# Altium schematic symbol library 1-1734592-0.SchLib: 1 symbol
Pins are listed as number, name and electrical type; pins without a type are passive.

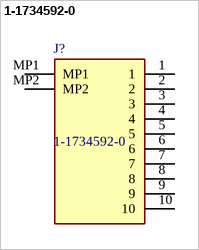
[diagram p0: symbol 1-1734592-0]

## 1-1734592-0
designator J?
TE Connectivity FPC 0.5mm Pitch 10 Way Right Angle SMT Female FPC Connector, ZIF Bottom Contact; Geometry.Height: 2.3mm; Mouser Part Number: 571-1-1734592-0; Mouser Price/Stock: https://www.mouser.co.uk/ProductDetail/TE-Connectivity/1-1734592-0?qs=sXy4Dx%2FMQpOH8ogf8%2FvwBg%3D%3D; Manufacturer_Name: TE Connectivity; Manufacturer_Part_Number: 1-1734592-0; Datasheet Link: https://www.te.com/commerce/DocumentDelivery/DDEController?Action=showdoc&DocId=Customer+Drawing%7F1734592%7FC%7Fpdf%7FEnglish%7FENG_CD_1734592_C_C_1734592.pdf%7F1-1734592-8
footprint 117345920
pins: 1, 2, 3, 4, 5, 6, 7, 8, 9, 10, MP1, MP2